# Altium footprint library IC_Analog_Devices_ADUM226N0BRIZ_2CH_Isolator.PcbLib: 1 footprints
Each footprint in its own frame and in the unit in brackets; x right, y up, seen from the top. Pads: shape width x height; smd on the part's side, far side on the other; paste and mask are expansions set on the pad; w line width, h text height; cw(c..) or ccw(c..) is an arc to the next point about the centre after c.
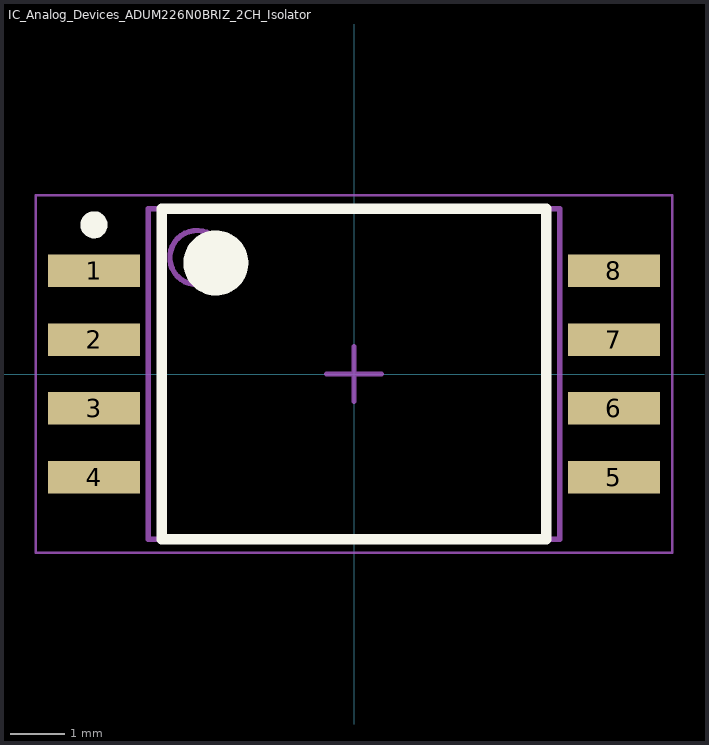
[diagram p0: the footprint, top view; thin cyan lines are the x and y axes]

## IC_Analog_Devices_ADUM226N0BRIZ_2CH_Isolator [mm]
height 2.65
pads (8):
  rect 1.7x0.6 smd: 1(-4.8,1.905) 2(-4.8,0.635) 3(-4.8,-0.635) 4(-4.8,-1.905) 5(4.8,-1.905) 6(4.8,-0.635) 7(4.8,0.635) 8(4.8,1.905)
Top Overlay:
  circle w0.25: c-4.8,2.755 r0.125
  circle w0.6: c-2.55,2.05 r0.3
  lines w0.2: -3.55,-3.05 -3.55,3.05 3.55,3.05 3.55,-3.05 -3.55,-3.05
Mechanical 13:
  circle w0.1: c-2.9,2.15 r0.5
  lines w0.1: -3.8,-3.05 -3.8,3.05 3.8,3.05 3.8,-3.05 -3.8,-3.05
Mechanical 15:
  lines w0.05: -5.875,-3.3 -5.875,3.3 5.875,3.3 5.875,-3.3 -5.875,-3.3
  lines w0.1: -0.5,0 0.5,0 ; 0,-0.5 0,0.5
3D body "SOIC127P1030X265-8N.step": height 2.65, standoff 0, extent -5.155,-3.05 5.155,3.05